# EAGLE library part LSM330DL (library LSM330)
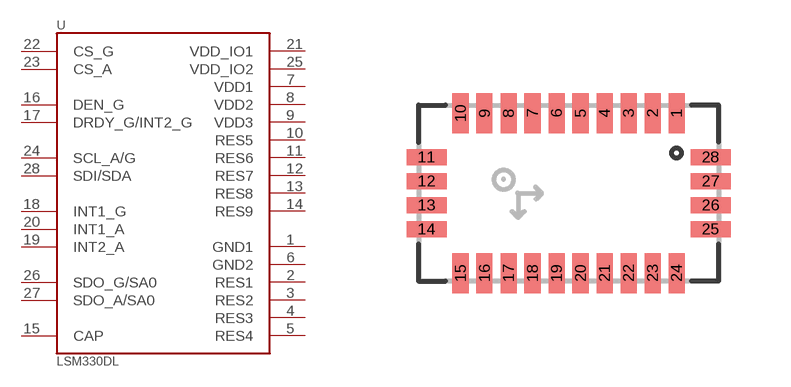
[diagram p1: symbol with the pads of LGA28L; footprint LGA28L]

Designator prefix -

## LSM330DL  [LGA28L]
1  GND1
2  RES1
3  RES2
4  RES3
5  RES4
6  GND2
7  VDD1
8  VDD2
9  VDD3
10  RES5
11  RES6
12  RES7
13  RES8
14  RES9
15  CAP
16  DEN_G
17  DRDY_G/INT2_G
18  INT1_G
19  INT2_A
20  INT1_A
21  VDD_IO1
22  CS_G
23  CS_A
24  SCL_A/G
25  VDD_IO2
26  SDO_G/SA0
27  SDO_A/SA0
28  SDI/SDA

## Footprint LGA28L (pad centres in mm)
smd 0.4 x 1: 1 2.7,2; 2 2.1,2; 3 1.5,2; 4 0.9,2; 5 0.3,2; 6 -0.3,2; 7 -0.9,2; 8 -1.5,2; 9 -2.1,2; 10 -2.7,2; 15 -2.7,-2; 16 -2.1,-2; 17 -1.5,-2; 18 -0.9,-2; 19 -0.3,-2; 20 0.3,-2; 21 0.9,-2; 22 1.5,-2; 23 2.1,-2; 24 2.7,-2
smd 1 x 0.4: 11 -3.55,0.9; 12 -3.55,0.3; 13 -3.55,-0.3; 14 -3.55,-0.9; 25 3.55,-0.9; 26 3.55,-0.3; 27 3.55,0.3; 28 3.55,0.9